# Altium footprint library WL-SFSW.PcbLib: 3 footprints
Each footprint in its own frame and in the unit in brackets; x right, y up, seen from the top. Pads: shape width x height; smd on the part's side, far side on the other; paste and mask are expansions set on the pad; w line width, h text height; cw(c..) or ccw(c..) is an arc to the next point about the centre after c.
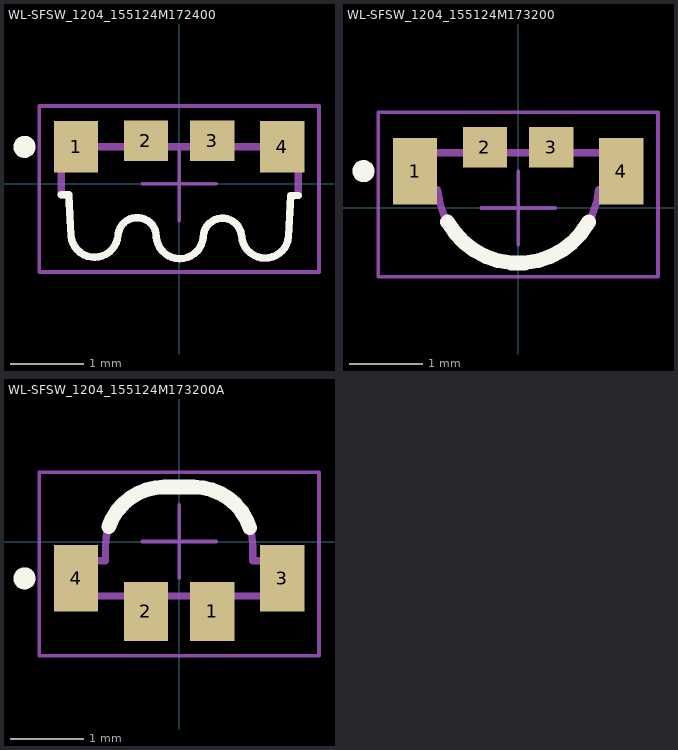
[diagram p0: the footprints below, top view; thin cyan lines are the x and y axes]

## WL-SFSW_1204_155124M172400 [mm] "SMD Full-color Side view Waterclear, body 3.20 x 1.50mm"
height 1
pads (4):
  rect 0.6x0.7 smd: 1(-1.4,0.5) 4(1.4,0.5)
  rect 0.6x0.55 smd: 2(-0.45,0.58) 3(0.45,0.58)
Top Overlay:
  circle w0.15: c-2.1,0.5 r0.075
  lines w0.1: -1.6,-0.15 -1.5,-0.15 -1.468,-0.709 ; -1.469,-0.711 ccw(c-1.15,-0.68) -0.831,-0.701 ; -0.827,-0.68 cw(c-0.57,-0.72) -0.31,-0.72 ccw(c0.009,-0.699) 0.328,-0.73 cw(c0.588,-0.73) 0.845,-0.691 ; 0.849,-0.711 ccw(c1.168,-0.69) 1.486,-0.721 ; 1.486,-0.719 1.518,-0.16 1.618,-0.16
Top Designator:
  text ".Designator" at -2.499,-0.167 h0.5
Top Component Outline:
  lines w0.1: -1.469,-0.711 ccw(c-1.15,-0.68) -0.831,-0.701 ; -1.468,-0.709 -1.5,-0.15 -1.6,-0.15 -1.6,0.5 1.6,0.5 ; -0.827,-0.68 cw(c-0.57,-0.72) -0.31,-0.72 ccw(c0.009,-0.699) 0.328,-0.73 cw(c0.588,-0.73) 0.845,-0.691 ; 0.849,-0.711 ccw(c1.168,-0.69) 1.486,-0.721 ; 1.486,-0.719 1.518,-0.16 1.618,-0.16 1.618,0.49
Top Courtyard:
  lines w0.05: -0.5,0 0.5,0 ; 0,-0.5 0,0.5 ; -1.9,-1.2 1.9,-1.2 1.9,1.055 -1.9,1.055 -1.9,-1.2
3D body "155124M172400_STP (rev1).stp": height 1.02, standoff 0.02, extent -1.6,-0.998 1.6,0.5

## WL-SFSW_1204_155124M173200 [mm] "SMD Full-color Side view Waterclear, body 3.2x1mm"
height 1
pads (4):
  rect 0.6x0.9 smd: 1(-1.4,0.5) 4(1.4,0.5)
  rect 0.6x0.55 smd: 2(-0.45,0.825) 3(0.45,0.825)
Top Overlay:
  circle w0.15: c-2.1,0.5 r0.075
  lines w0.2: -0.959,-0.189 ccw(c0,0.35) 0.959,-0.189
Top Designator:
  text ".Designator" at -2.499,-0.167 h0.5
Top Component Outline:
  circle w0.1: c-1.3,0.5 r0.1
  lines w0.1: -1.6,0.25 -1.095,0.25 ccw(c0,0.35) 1.095,0.25 1.6,0.25 1.6,0.75 -1.6,0.75 -1.6,0.25
Top Courtyard:
  lines w0.05: -0.5,0 0.5,0 ; 0,-0.5 0,0.5 ; -1.9,-0.935 -1.9,1.3 1.9,1.3 1.9,-0.935 -1.9,-0.935
3D body "155124M173200 (rev1).stp": height 1.02, standoff 0.02, extent -1.6,-0.735 1.6,0.765

## WL-SFSW_1204_155124M173200A [mm] "SMD Full-color Side view Waterclear, body 3.2x1mm"
height 0.5
pads (4):
  rect 0.6x0.8 smd: 1(0.45,-0.95) 2(-0.45,-0.95)
  rect 0.6x0.9 smd: 3(1.4,-0.5) 4(-1.4,-0.5)
Top Overlay:
  circle w0.15: c-2.1,-0.5 r0.075
  lines w0.2: -0.956,0.202 cw(c-0.2,-0.06) -0.2,0.74 0.2,0.74 cw(c0.2,-0.06) 0.961,0.187
Top Designator:
  text ".Designator" at -2.499,-0.167 h0.5
Top Component Outline:
  rectangle: -1.6,-0.74 -1.1,-0.26
  lines w0.1: -1.6,-0.74 1.6,-0.74 1.6,-0.26 1,-0.26 1,-0.06 ccw(c0.2,-0.06) 0.2,0.74 -0.2,0.74 ccw(c-0.2,-0.06) -1,-0.06 -1,-0.26 -1.6,-0.26 -1.6,-0.74
Top Courtyard:
  lines w0.05: -0.5,0 0.5,0 ; 0,-0.5 0,0.5 ; -1.9,-1.55 -1.9,0.94 1.9,0.94 1.9,-1.55 -1.9,-1.55
3D body "155124M173200A (rev1)(2).stp": height 1.02, standoff 0.02, extent -1.6,-0.74 1.6,0.74